# EAGLE library part BLUR_TINY (library Bluetooth_tiny)
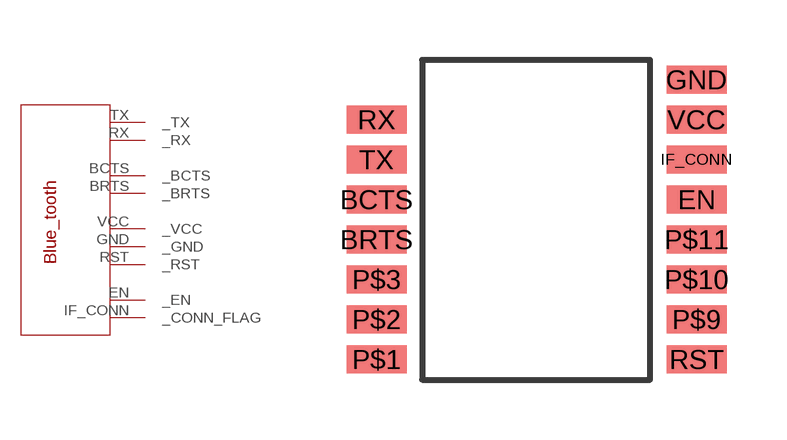
[diagram p0: symbol with the pads of BLUE_TINY; footprint BLUE_TINY]

Designator prefix -

## BLUR_TINY  [BLUE_TINY]
BCTS  _BCTS
BRTS  _BRTS
EN  _EN
GND  _GND
IF_CONN  _CONN_FLAG
RST  _RST
RX  _RX
TX  _TX
VCC  _VCC

## Footprint BLUE_TINY (pad centres in mm)
smd 1.5 x 0.7: BCTS 0,4; BRTS 0,3; EN 8,4; GND 8,7; IF_CONN 8,5; P$1 0,0; P$2 0,1; P$3 0,2; P$9 8,1; P$10 8,2; P$11 8,3; RST 8,0; RX 0,6; TX 0,5; VCC 8,6